# EAGLE library part 15EDGRC-3.5-10P (library doz)
pluggable switch 3.5
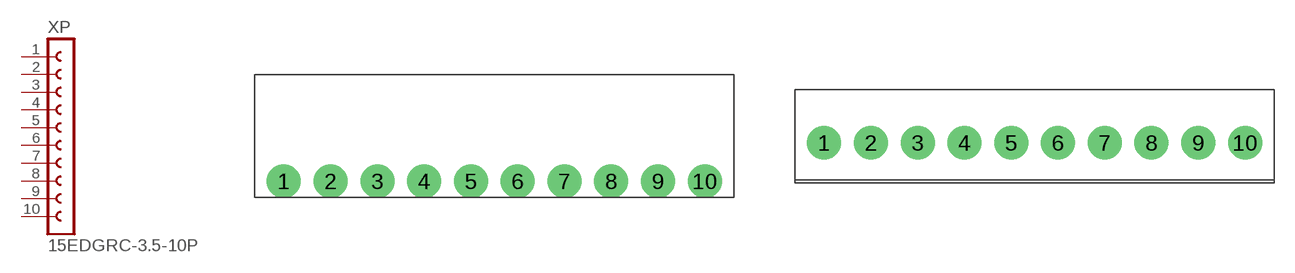
[diagram p3: symbol with the pads of 15EDGRC-3.5-10P; footprints 15EDGRC-3.5-10P, 15EDGVC-3.5-10P]

Designator prefix XP

## 15EDGRC-3.5-10P''90GR  [15EDGRC-3.5-10P]
1  1  pas
2  2  pas
3  3  pas
4  4  pas
5  5  pas
6  6  pas
7  7  pas
8  8  pas
9  9  pas
10  10  pas

## 15EDGRC-3.5-10P''VERT  [15EDGVC-3.5-10P]
Pads as for 15EDGRC-3.5-10P

## 15EDGRC-3.5-10PLUT  [15EDGVC-3.5-10P_LUT]
Pads as for 15EDGRC-3.5-10P

## Footprint 15EDGRC-3.5-10P (pad centres in mm)
90 grad ver
drill 1.4 pad 2.54: 1 -14,0; 2 -10.5,0; 3 -7,0; 4 -3.5,0; 5 0,0; 6 3.5,0; 7 7,0; 8 10.5,0; 9 14,0; 10 17.5,0

## Footprint 15EDGVC-3.5-10P (pad centres in mm)
straight ver
drill 1.4 pad 2.54: 1 -14,0; 2 -10.5,0; 3 -7,0; 4 -3.5,0; 5 0,0; 6 3.5,0; 7 7,0; 8 10.5,0; 9 14,0; 10 17.5,0

## Footprint 15EDGVC-3.5-10P_LUT (pad centres in mm)
drill 0.5 pad 2.8: 1 -14,0; 2 -10.5,0; 3 -7,0; 4 -3.5,0; 5 0,0; 6 3.5,0; 7 7,0; 8 10.5,0; 9 14,0; 10 17.5,0